# Altium footprint library FDA450.PcbLib: 1 footprints
Each footprint in its own frame and in the unit in brackets; x right, y up, seen from the top. Pads: shape width x height; smd on the part's side, far side on the other; paste and mask are expansions set on the pad; w line width, h text height; cw(c..) or ccw(c..) is an arc to the next point about the centre after c.
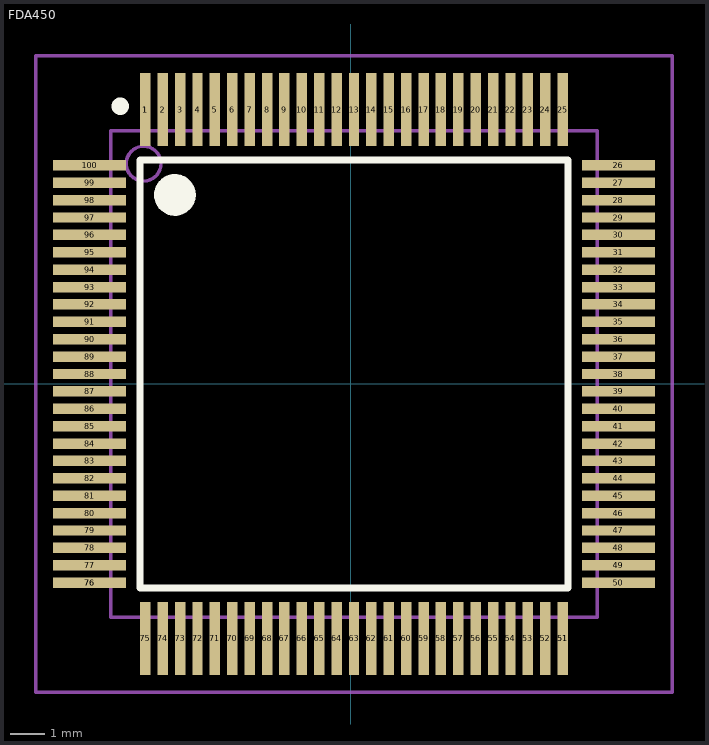
[diagram p0: the footprint, top view; thin cyan lines are the x and y axes]

## FDA450 [mm]
pads (103):
  rect 0.3x2.1 smd: 1(-5.9,7.875) 1(-5.9,7.875) 2(-5.4,7.875) 3(-4.9,7.875) 4(-4.4,7.875) 5(-3.9,7.875) 6(-3.4,7.875) 7(-2.9,7.875) 8(-2.4,7.875) 9(-1.9,7.875) 10(-1.4,7.875) 11(-0.9,7.875) 12(-0.4,7.875) 13(0.1,7.875) 14(0.6,7.875) 15(1.1,7.875) 16(1.6,7.875) 17(2.1,7.875) 18(2.6,7.875) 19(3.1,7.875) 20(3.6,7.875) 21(4.1,7.875) 22(4.6,7.875) 23(5.1,7.875) 24(5.6,7.875) 25(6.1,7.875) 51(6.1,-7.325) 51(6.1,-7.325) 52(5.6,-7.325) 53(5.1,-7.325) 54(4.6,-7.325) 55(4.1,-7.325) 56(3.6,-7.325) 57(3.1,-7.325) 58(2.6,-7.325) 59(2.1,-7.325) 60(1.6,-7.325) 61(1.1,-7.325) 62(0.6,-7.325) 63(0.1,-7.325) 64(-0.4,-7.325) 65(-0.9,-7.325) 66(-1.4,-7.325) 67(-1.9,-7.325) 68(-2.4,-7.325) 69(-2.9,-7.325) 70(-3.4,-7.325) 71(-3.9,-7.325) 72(-4.4,-7.325) 73(-4.9,-7.325) 74(-5.4,-7.325) 75(-5.9,-7.325)
  rect 2.1x0.3 smd: 26(7.7,6.275) 27(7.7,5.775) 28(7.7,5.275) 29(7.7,4.775) 30(7.7,4.275) 31(7.7,3.775) 32(7.7,3.275) 33(7.7,2.775) 34(7.7,2.275) 35(7.7,1.775) 36(7.7,1.275) 37(7.7,0.775) 38(7.7,0.275) 39(7.7,-0.225) 40(7.7,-0.725) 41(7.7,-1.225) 42(7.7,-1.725) 43(7.7,-2.225) 44(7.7,-2.725) 45(7.7,-3.225) 46(7.7,-3.725) 47(7.7,-4.225) 48(7.7,-4.725) 49(7.7,-5.225) 50(7.7,-5.725) 76(-7.5,-5.725) 76(-7.5,-5.725) 77(-7.5,-5.225) 78(-7.5,-4.725) 79(-7.5,-4.225) 80(-7.5,-3.725) 81(-7.5,-3.225) 82(-7.5,-2.725) 83(-7.5,-2.225) 84(-7.5,-1.725) 85(-7.5,-1.225) 86(-7.5,-0.725) 87(-7.5,-0.225) 88(-7.5,0.275) 89(-7.5,0.775) 90(-7.5,1.275) 91(-7.5,1.775) 92(-7.5,2.275) 93(-7.5,2.775) 94(-7.5,3.275) 95(-7.5,3.775) 96(-7.5,4.275) 97(-7.5,4.775) 98(-7.5,5.275) 99(-7.5,5.775) 100(-7.5,6.275)
Top Overlay:
  circle w0.6: c-5.05,5.425 r0.3
  circle w0.25: c-6.625,7.975 r0.125
  lines w0.2: -6.05,-5.875 6.25,-5.875 6.25,6.425 -6.05,6.425 -6.05,-5.875
Mechanical 13:
  circle w0.1: c-5.95,6.325 r0.5
  lines w0.1: -6.9,-6.725 7.1,-6.725 7.1,7.275 -6.9,7.275 -6.9,-6.725
Mechanical 15:
  lines w0.1: -9.05,-8.875 9.25,-8.875 9.25,9.425 -9.05,9.425 -9.05,-8.875
3D body: height 1.09, standoff 0.4, extent -6.925,-6.75 7.075,7.25